# Altium schematic symbol library KF301.SchLib: 14 symbols
Pins are listed as number, name and electrical type; pins without a type are passive.

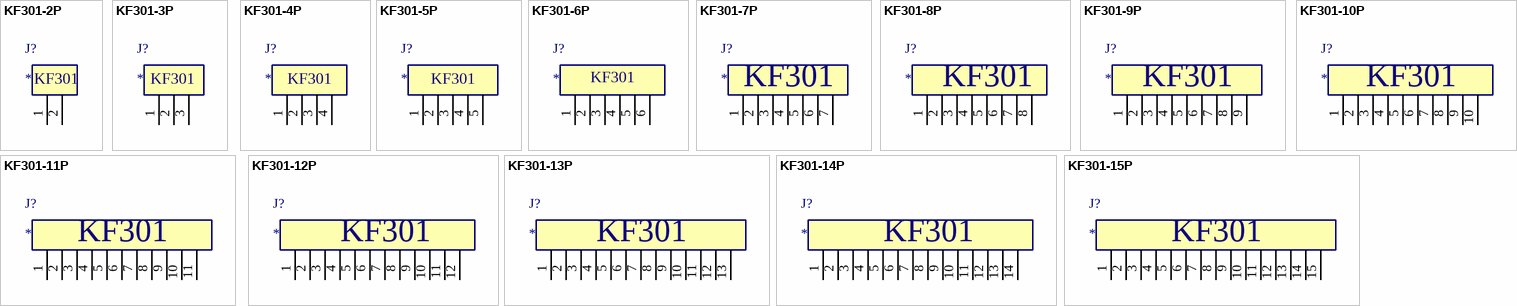
[diagram p0: symbols KF301-2P to KF301-15P]

## KF301-2P
designator J?
footprint KF301-5.0-2P (可拼接端子/6A)
pins: 1, 2
text: KF301

## KF301-3P
designator J?
footprint KF301-5.0-3P (可拼接端子/6A)
pins: 1, 2, 3
text: KF301

## KF301-4P
designator J?
footprint KF301-5.0-4P (可拼接端子/6A)
pins: 1, 2, 3, 4
text: KF301

## KF301-5P
designator J?
footprint KF301-5.0-5P (可拼接端子/6A)
pins: 1, 2, 3, 4, 5
text: KF301

## KF301-6P
designator J?
footprint KF301-5.0-6P (可拼接端子/6A)
pins: 1, 2, 3, 4, 5, 6
text: KF301

## KF301-7P
designator J?
footprint KF301-5.0-7P (可拼接端子/6A)
pins: 1, 2, 3, 4, 5, 6, 7
text: KF301

## KF301-8P
designator J?
footprint KF301-5.0-8P (可拼接端子/6A)
pins: 1, 2, 3, 4, 5, 6, 7, 8
text: KF301

## KF301-9P
designator J?
footprint KF301-5.0-9P (可拼接端子/6A)
pins: 1, 2, 3, 4, 5, 6, 7, 8, 9
text: KF301

## KF301-10P
designator J?
footprint KF301-5.0-10P (可拼接端子/6A)
pins: 1, 2, 3, 4, 5, 6, 7, 8, 9, 10
text: KF301

## KF301-11P
designator J?
footprint KF301-5.0-11P (可拼接端子/6A)
pins: 1, 2, 3, 4, 5, 6, 7, 8, 9, 10, 11
text: KF301

## KF301-12P
designator J?
footprint KF301-5.0-12P (可拼接端子/6A)
pins: 1, 2, 3, 4, 5, 6, 7, 8, 9, 10, 11, 12
text: KF301

## KF301-13P
designator J?
footprint KF301-5.0-13P (可拼接端子/6A)
pins: 1, 2, 3, 4, 5, 6, 7, 8, 9, 10, 11, 12, 13
text: KF301

## KF301-14P
designator J?
footprint KF301-5.0-14P (可拼接端子/6A)
pins: 1, 2, 3, 4, 5, 6, 7, 8, 9, 10, 11, 12, 13, 14
text: KF301

## KF301-15P
designator J?
footprint KF301-5.0-15P (可拼接端子/6A)
pins: 1, 2, 3, 4, 5, 6, 7, 8, 9, 10, 11, 12, 13, 14, 15
text: KF301